# Altium schematic symbol library uln2003.SchLib: 1 symbol
Pins are listed as number, name and electrical type; pins without a type are passive.

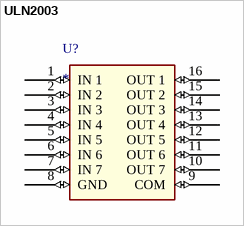
[diagram p0: symbol ULN2003]

## ULN2003
designator U?
footprint DIP16
pins: 1 IN 1 (io), 2 IN 2 (io), 3 IN 3 (io), 4 IN 4 (io), 5 IN 5 (io), 6 IN 6 (io), 7 IN 7 (io), 8 GND (io), 9 COM (io), 10 OUT 7 (io), 11 OUT 6 (io), 12 OUT 5 (io), 13 OUT 4 (io), 14 OUT 3 (io), 15 OUT 2 (io), 16 OUT 1 (io)